# EAGLE library part PCF8574 (library mylib)
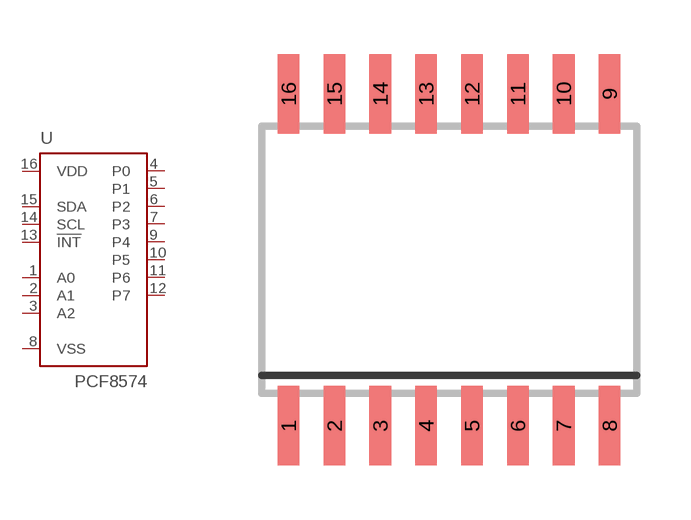
[diagram p15: symbol with the pads of SO16W; footprint SO16W]

Designator prefix -

## PCF8574  [SO16W]
1  A0
2  A1
3  A2
4  P0
5  P1
6  P2
7  P3
8  VSS
9  P4
10  P5
11  P6
12  P7
13  !INT
14  SCL
15  SDA
16  VDD

## Footprint SO16W (pad centres in mm)
smd 0.6 x 2.2: 1 -4.445,-4.6; 2 -3.175,-4.6; 3 -1.905,-4.6; 4 -0.635,-4.6; 5 0.635,-4.6; 6 1.905,-4.6; 7 3.175,-4.6; 8 4.445,-4.6; 9 4.445,4.6; 10 3.175,4.6; 11 1.905,4.6; 12 0.635,4.6; 13 -0.635,4.6; 14 -1.905,4.6; 15 -3.175,4.6; 16 -4.445,4.6